# Altium footprint library Flex-slot-1.PcbLib: 1 footprints
Each footprint in its own frame and in the unit in brackets; x right, y up, seen from the top. Pads: shape width x height; smd on the part's side, far side on the other; paste and mask are expansions set on the pad; w line width, h text height; cw(c..) or ccw(c..) is an arc to the next point about the centre after c.
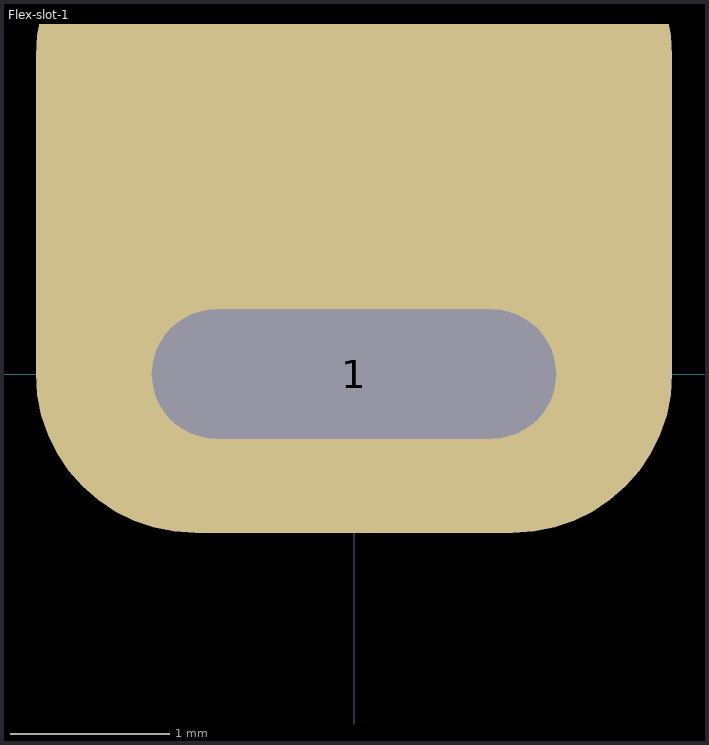
[diagram p0: the footprint, top view; thin cyan lines are the x and y axes]

## Flex-slot-1 [mm]
pads (1):
  rrect50% 4x4 hole 0.813 slot 2.54 at 0 deg copper offset 0,1 mask-0.2: 1(0,0)
Top Layer:
  lines w0.01: -1.27,0 ccw(c-0.864,0) -0.864,-0.406 0.864,-0.406 ccw(c0.864,0) 1.27,0 ccw(c0.864,0) 0.864,0.406 -0.864,0.406 ccw(c-0.864,0) -1.27,0